# EAGLE library part CV32V305FBP6 (library SamacSys_Parts)
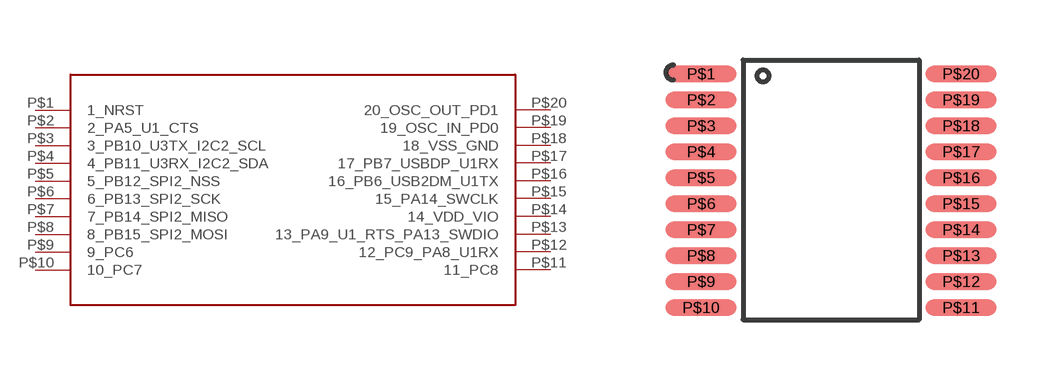
[diagram p261: symbol with the pads of WCH_TSSOP20; footprint WCH_TSSOP20]

Designator prefix -

## CV32V305FBP6  [WCH_TSSOP20]
P$1  1_NRST
P$2  2_PA5_U1_CTS
P$3  3_PB10_U3TX_I2C2_SCL
P$4  4_PB11_U3RX_I2C2_SDA
P$5  5_PB12_SPI2_NSS
P$6  6_PB13_SPI2_SCK
P$7  7_PB14_SPI2_MISO
P$8  8_PB15_SPI2_MOSI
P$9  9_PC6
P$10  10_PC7
P$11  11_PC8
P$12  12_PC9_PA8_U1RX
P$13  13_PA9_U1_RTS_PA13_SWDIO
P$14  14_VDD_VIO
P$15  15_PA14_SWCLK
P$16  16_PB6_USB2DM_U1TX
P$17  17_PB7_USBDP_U1RX
P$18  18_VSS_GND
P$19  19_OSC_IN_PD0
P$20  20_OSC_OUT_PD1

## Footprint WCH_TSSOP20 (pad centres in mm)
smd 1.78 x 0.4: P$1 -3.25,2.95; P$2 -3.25,2.3; P$3 -3.25,1.65; P$4 -3.25,1; P$5 -3.25,0.35; P$6 -3.25,-0.3; P$7 -3.25,-0.95; P$8 -3.25,-1.6; P$9 -3.25,-2.25; P$10 -3.25,-2.9; P$11 3.25,-2.9; P$12 3.25,-2.25; P$13 3.25,-1.6; P$14 3.25,-0.95; P$15 3.25,-0.3; P$16 3.25,0.35; P$17 3.25,1; P$18 3.25,1.65; P$19 3.25,2.3; P$20 3.25,2.95